# Altium schematic symbol library pporyzala-TI_Lighting.SchLib: 745 symbols (part 41 of 48)
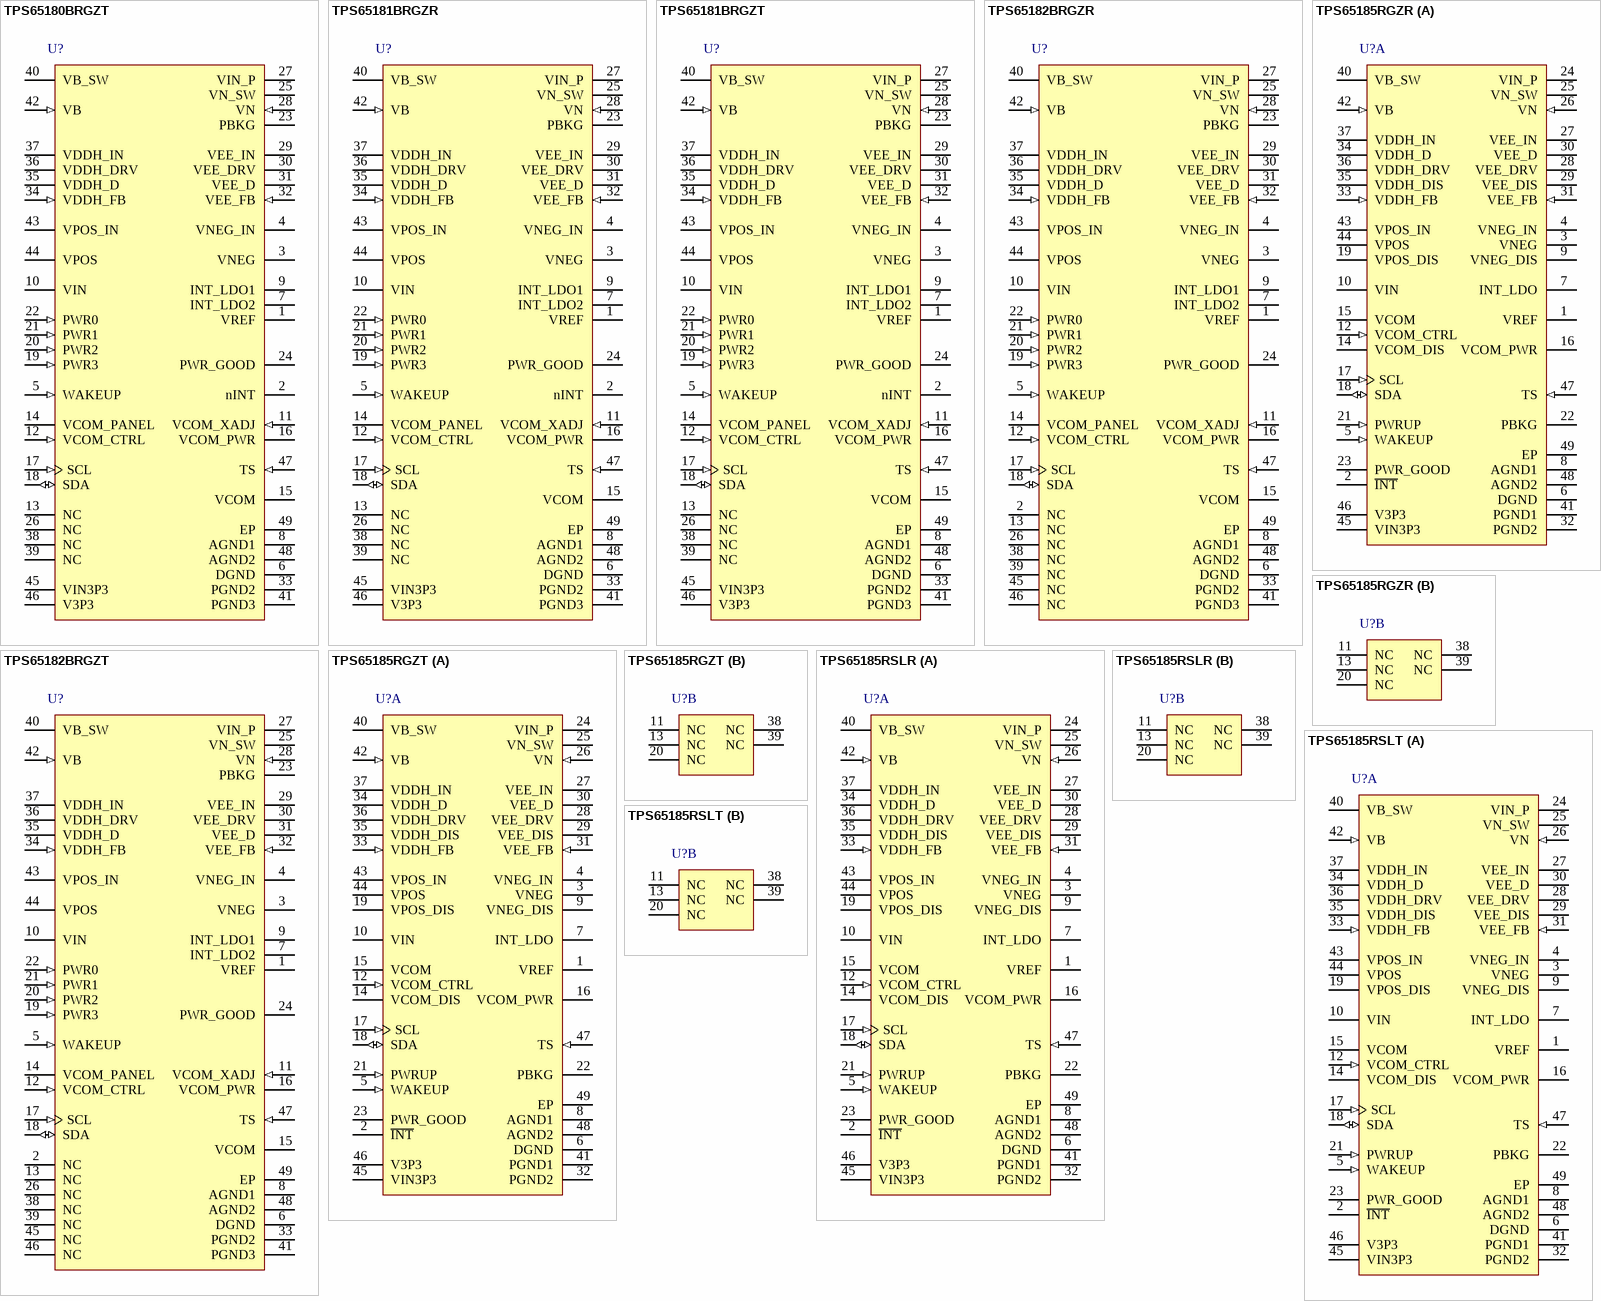
[diagram p71: symbols TPS65180BRGZT to TPS65185RSLT]

## TPS65181BRGZR
designator U?
PMIC for E Ink Vizplex Enabled Electronic Paper Display, 3 to 6 V, -10 to 85 degC, 48-pin QFN (RGZ48), Green (RoHS & no Sb/Br); Manufacturer: Texas Instruments; PartNumber: TPS65181BRGZR; Rating: Catalog; SubFamily: LCD/OLED Display Bias Solutions; Topology: Multi-Channel; Vin(Max)(V): 6; Vin(Min)(V): 3; DatasheetVersion: SLVSA76F; PackageVersion: 4204101/F; PackageReference: RGZ48-4100X4100TP; PackageDescription: 48-Pin Plastic Flat Pack, Body 7 x 7 mm, Pitch 0.5 mm; Supplier 1: Digi-Key; Supplier Part Number 1: 296-28639-2-ND; Supplier 2: Digi-Key; Supplier Part Number 2: 296-28639-1-ND; Supplier 3: Digi-Key; Supplier Part Number 3: 296-28639-6-ND; Supplier 4: Mouser; Supplier Part Number 4: 595-TPS65181BRGZR; Eco-Plan: Green (RoHS & no Sb/Br); Mounting Technology: Surface Mount; Code_JEDEC: MO-220; ComponentLink1Description: Manufacturer URL; ComponentLink1URL: http://www.ti.com/; ComponentLink2Description: Datasheet; ComponentLink2URL: http://www.ti.com/general/docs/lit/getliterature.tsp?genericPartNumber=TPS65181B&fileType=pdf; ComponentLink3Description: Package Specification; ComponentLink3URL: http://www.ti.com/lit/ds/symlink/sn75dp139.pdf
footprint TI-RGZ48-4100X4100TP_V (QFN, 48-Leads, Body 7x7mm, Pitch 0.5mm, Thermal Pad 4.1x4.1mm)
pins: 1 VREF "Filter pin for 2.25-V internal reference to ADC", 2 nINT (oc) "Open drain interrupt pin (active low)", 3 VNEG (power) "Negative supply output pin for panel source drivers", 4 VNEG_IN (power) "Input pin for LDO2 (VNEG)", 5 WAKEUP (in) "Wake up pin (active high). Pull this pin high to wake up from sleep mode.", 6 DGND (power) "Digital ground", 7 INT_LDO2 "Internal supply (digital circuitry) filter pin", 8 AGND1 (power) "Analog ground for general analog circuitry", 9 INT_LDO1 "Internal supply (analog circuitry) filter pin", 10 VIN (power) "Input power supply to general circuitry", 11 VCOM_XADJ (in) "Analog input for conventional VCOM setup method. Tie this pin to ground if VCOM is set through I2 C interface", 12 VCOM_CTRL (in) "VCOM_PANEL gate driver enable (active high)", 13 NC "Not connected", 14 VCOM_PANEL (power) "Panel common-voltage output pin", 15 VCOM "Filter pin for panel common-voltage driver", 16 VCOM_PWR (power) "Internal supply input pin to VCOM buffer. Connect to the output of DCDC2.", 17 SCL (in) "Serial interface (I2C) clock input", 18 SDA (io) "Serial interface (I2C) data input/output", 19 PWR3 (in) "Enable pin for CP1 (VDDH) (active high)", 20 PWR2 (in) "Enable pin for LDO1 (VPOS) (active high)", 21 PWR1 (in) "Enable pin for CP2 (VEE) (active high)", 22 PWR0 (in) "Enable pin for LDO2 (VNEG) and VCOM (active high)", 23 PBKG (power) "Die substrate/thermal pad ,Connect to VN with short. wide trace.Wide copper trace will improve heat dissipation.PowePad must not be connected to ground", 24 PWR_GOOD (oc) "Open drain power good output pin (active low)", 25 VN_SW (power) "Inverting buck-boost converter switch out (DCDC2)", 26 NC "Not connected", 27 VIN_P (power) "Input power supply to inverting buck-boost converter (DCDC2)", 28 VN (in) "Feedback pin for inverting buck-boost converter (DCDC2)", 29 VEE_IN (power) "Input supply pin for CP1 (VEE)", 30 VEE_DRV (power) "Driver output pin for negative charge pump (CP2)", 31 VEE_D (power) "Base voltage output pin for negative charge pump (CP2)", 32 VEE_FB (in) "Feedback pin for negative charge pump (CP2)", 33 PGND2 (power) "Power ground for CP1 (VDDH) and CP2 (VEE) charge pumps", 34 VDDH_FB (in) "Feedback pin for positive charge pump (CP1)", 35 VDDH_D (power) "Base voltage output pin for positive charge pump (CP1)", 36 VDDH_DRV (power) "Driver output pin for positive charge pump (CP1)", 37 VDDH_IN (power) "Input supply pin for positive charge pump (CP1)", 38 NC "Not connected", 39 NC "Not connected", 40 VB_SW (power) "Boost converter switch out (DCDC1)", 41 PGND3 (power) "Power ground for DCDC1", 42 VB (in) "Feedback pin for boost converter (DCDC1)", 43 VPOS_IN (power) "Input pin for LDO1 (VPOS)", 44 VPOS (power) "Positive supply output pin for panel source drivers", 45 VIN3P3 (power) "Input pin to 3.3-V power switch", 46 V3P3 (power) "Output pin of 3.3-V power switch", 47 TS (in) "Thermistor input pin.Connect a 10k NTC thermistor and a 43k linearization resistor between this pin and AGND2", 48 AGND2 (power) "Reference point to external thermistor and linearization resistor", 49 EP "Exposed pad"

## TPS65181BRGZT
designator U?
PMIC for E Ink Vizplex Enabled Electronic Paper Display, 3 to 6 V, -10 to 85 degC, 48-pin QFN (RGZ48), Green (RoHS & no Sb/Br); Manufacturer: Texas Instruments; PartNumber: TPS65181BRGZT; Rating: Catalog; SubFamily: LCD/OLED Display Bias Solutions; Topology: Multi-Channel; Vin(Max)(V): 6; Vin(Min)(V): 3; DatasheetVersion: SLVSA76F; PackageVersion: 4204101/F; PackageReference: RGZ48-4100X4100TP; PackageDescription: 48-Pin Plastic Flat Pack, Body 7 x 7 mm, Pitch 0.5 mm; Supplier 1: Digi-Key; Supplier Part Number 1: TPS65181BRGZT-ND; Supplier 2: Mouser; Supplier Part Number 2: 595-TPS65181BRGZT; Eco-Plan: Green (RoHS & no Sb/Br); Mounting Technology: Surface Mount; Code_JEDEC: MO-220; ComponentLink1Description: Manufacturer URL; ComponentLink1URL: http://www.ti.com/; ComponentLink2Description: Datasheet; ComponentLink2URL: http://www.ti.com/general/docs/lit/getliterature.tsp?genericPartNumber=TPS65181B&fileType=pdf; ComponentLink3Description: Package Specification; ComponentLink3URL: http://www.ti.com/lit/ds/symlink/sn75dp139.pdf
footprint TI-RGZ48-4100X4100TP_V (QFN, 48-Leads, Body 7x7mm, Pitch 0.5mm, Thermal Pad 4.1x4.1mm)
pins: 1 VREF "Filter pin for 2.25-V internal reference to ADC", 2 nINT (oc) "Open drain interrupt pin (active low)", 3 VNEG (power) "Negative supply output pin for panel source drivers", 4 VNEG_IN (power) "Input pin for LDO2 (VNEG)", 5 WAKEUP (in) "Wake up pin (active high). Pull this pin high to wake up from sleep mode.", 6 DGND (power) "Digital ground", 7 INT_LDO2 "Internal supply (digital circuitry) filter pin", 8 AGND1 (power) "Analog ground for general analog circuitry", 9 INT_LDO1 "Internal supply (analog circuitry) filter pin", 10 VIN (power) "Input power supply to general circuitry", 11 VCOM_XADJ (in) "Analog input for conventional VCOM setup method. Tie this pin to ground if VCOM is set through I2 C interface", 12 VCOM_CTRL (in) "VCOM_PANEL gate driver enable (active high)", 13 NC "Not connected", 14 VCOM_PANEL (power) "Panel common-voltage output pin", 15 VCOM "Filter pin for panel common-voltage driver", 16 VCOM_PWR (power) "Internal supply input pin to VCOM buffer. Connect to the output of DCDC2.", 17 SCL (in) "Serial interface (I2C) clock input", 18 SDA (io) "Serial interface (I2C) data input/output", 19 PWR3 (in) "Enable pin for CP1 (VDDH) (active high)", 20 PWR2 (in) "Enable pin for LDO1 (VPOS) (active high)", 21 PWR1 (in) "Enable pin for CP2 (VEE) (active high)", 22 PWR0 (in) "Enable pin for LDO2 (VNEG) and VCOM (active high)", 23 PBKG (power) "Die substrate/thermal pad ,Connect to VN with short. wide trace.Wide copper trace will improve heat dissipation.PowePad must not be connected to ground", 24 PWR_GOOD (oc) "Open drain power good output pin (active low)", 25 VN_SW (power) "Inverting buck-boost converter switch out (DCDC2)", 26 NC "Not connected", 27 VIN_P (power) "Input power supply to inverting buck-boost converter (DCDC2)", 28 VN (in) "Feedback pin for inverting buck-boost converter (DCDC2)", 29 VEE_IN (power) "Input supply pin for CP1 (VEE)", 30 VEE_DRV (power) "Driver output pin for negative charge pump (CP2)", 31 VEE_D (power) "Base voltage output pin for negative charge pump (CP2)", 32 VEE_FB (in) "Feedback pin for negative charge pump (CP2)", 33 PGND2 (power) "Power ground for CP1 (VDDH) and CP2 (VEE) charge pumps", 34 VDDH_FB (in) "Feedback pin for positive charge pump (CP1)", 35 VDDH_D (power) "Base voltage output pin for positive charge pump (CP1)", 36 VDDH_DRV (power) "Driver output pin for positive charge pump (CP1)", 37 VDDH_IN (power) "Input supply pin for positive charge pump (CP1)", 38 NC "Not connected", 39 NC "Not connected", 40 VB_SW (power) "Boost converter switch out (DCDC1)", 41 PGND3 (power) "Power ground for DCDC1", 42 VB (in) "Feedback pin for boost converter (DCDC1)", 43 VPOS_IN (power) "Input pin for LDO1 (VPOS)", 44 VPOS (power) "Positive supply output pin for panel source drivers", 45 VIN3P3 (power) "Input pin to 3.3-V power switch", 46 V3P3 (power) "Output pin of 3.3-V power switch", 47 TS (in) "Thermistor input pin.Connect a 10k NTC thermistor and a 43k linearization resistor between this pin and AGND2", 48 AGND2 (power) "Reference point to external thermistor and linearization resistor", 49 EP "Exposed pad"

## TPS65182BRGZR
designator U?
PMIC for E Ink Vizplex Enabled Electronic Paper Display, 3 to 6 V, -10 to 85 degC, 48-pin QFN (RGZ48), Green (RoHS & no Sb/Br); Manufacturer: Texas Instruments; PartNumber: TPS65182BRGZR; Rating: Catalog; SubFamily: LCD/OLED Display Bias Solutions; Topology: Multi-Channel; Vin(Max)(V): 6; Vin(Min)(V): 3; DatasheetVersion: SLVSAA2C; PackageVersion: 4204101/F; PackageReference: RGZ48-4100X4100TP; PackageDescription: 48-Pin Plastic Flat Pack, Body 7 x 7 mm, Pitch 0.5 mm; Supplier 1: Digi-Key; Supplier Part Number 1: 296-28556-2-ND; Supplier 2: Digi-Key; Supplier Part Number 2: 296-28556-1-ND; Supplier 3: Digi-Key; Supplier Part Number 3: 296-28556-6-ND; Supplier 4: Mouser; Supplier Part Number 4: 595-TPS65182BRGZR; Eco-Plan: Green (RoHS & no Sb/Br); Mounting Technology: Surface Mount; Code_JEDEC: MO-220; ComponentLink1Description: Manufacturer URL; ComponentLink1URL: http://www.ti.com/; ComponentLink2Description: Datasheet; ComponentLink2URL: http://www.ti.com/general/docs/lit/getliterature.tsp?genericPartNumber=TPS65182B&fileType=pdf; ComponentLink3Description: Package Specification; ComponentLink3URL: http://www.ti.com/lit/ds/symlink/sn75dp139.pdf
footprint TI-RGZ48-4100X4100TP_V (QFN, 48-Leads, Body 7x7mm, Pitch 0.5mm, Thermal Pad 4.1x4.1mm)
pins: 1 VREF "Filter pin for 2.25-V internal reference to ADC", 2 NC "Not connected", 3 VNEG (power) "Negative supply output pin for panel source drivers", 4 VNEG_IN (power) "Input pin for LDO2 (VNEG)", 5 WAKEUP (in) "Wake up pin (active high). Pull this pin high to wake up from sleep mode.", 6 DGND (power) "Digital ground", 7 INT_LDO2 "Internal supply (digital circuitry) filter pin", 8 AGND1 (power) "Analog ground for general analog circuitry", 9 INT_LDO1 "Internal supply (analog circuitry) filter pin", 10 VIN (power) "Input power supply to general circuitry", 11 VCOM_XADJ (in) "Analog infvut for conventional VCOM setup method.Tie this pin to ground if VCOM is set through I2C interface.", 12 VCOM_CTRL (in) "VCOM_PANEL gate driver enable (active high)", 13 NC "Not connected", 14 VCOM_PANEL (power) "Panel common-voltage output pin", 15 VCOM "Filter pin for panel common-voltage driver", 16 VCOM_PWR (power) "Internal supply input pin to VCOM buffer. Connect to the output of DCDC2.", 17 SCL (in) "Serial interface (I2C) clock input", 18 SDA (io) "Serial interface (I2C) data input/output", 19 PWR3 (in) "Enable pin for CP1 (VDDH) (active high)", 20 PWR2 (in) "Enable pin for LDO1 (VPOS) (active high)", 21 PWR1 (in) "Enable pin for CP2 (VEE) (active high)", 22 PWR0 (in) "Enable pin for LDO2 (VNEG) and VCOM (active high)", 23 PBKG (power) "Die substrate/themial pad. Connect to VN with short, wide trace, Wide copper trace will improve heat dissipation. PowerPad must not be connected to ground.", 24 PWR_GOOD (oc) "Open drain power good output pin (active low)", 25 VN_SW (power) "Inverting buck-boost converter switch out (DCDC2)", 26 NC "Not connected", 27 VIN_P (power) "Input power supply to inverting buck-boost converter (DCDC2)", 28 VN (in) "Feedback pin for inverting buck-boost converter (DCDC2)", 29 VEE_IN (power) "Input supply pin for CP1 (VEE)", 30 VEE_DRV (power) "Driver output pin for negative charge pump (CP2)", 31 VEE_D (power) "Base voltage output pin for negative charge pump (CP2)", 32 VEE_FB (in) "Feedback pin for negative charge pump (CP2)", 33 PGND2 (power) "Power ground for CP1 (VDDH) and CP2 (VEE) charge pumps", 34 VDDH_FB (in) "Feedback pin for positive charge pump (CP1)", 35 VDDH_D (power) "Base voltage output pin for positive charge pump (CP1)", 36 VDDH_DRV (power) "Driver output pin for positive charge pump (CP1)", 37 VDDH_IN (power) "Input supply pin for positive charge pump (CP1)", 38 NC "Not connected", 39 NC "Not connected", 40 VB_SW (power) "Boost converter switch out (DCDC1)", 41 PGND3 (power) "Power ground for DCDC1", 42 VB (in) "Feedback pin for boost converter (DCDC1)", 43 VPOS_IN (power) "Input pin for LDO1 (VPOS)", 44 VPOS (power) "Positive supply output pin for panel source drivers", 45 NC "Not connected", 46 NC "Not connected", 47 TS (in) "Thermistor input pin. Connect a 10k NTC thennistor and a 43k Iinearization resistor between this pin and AGND2.", 48 AGND2 (power) "Reference point to external thermistor and linearization resistor", 49 EP "Die substrate/themial pad. Connect to VN with short, wide trace, Wide copper trace will improve heat dissipation. PowerPad must not be connected to ground."

## TPS65182BRGZT
designator U?
PMIC for E Ink Vizplex Enabled Electronic Paper Display, 3 to 6 V, -10 to 85 degC, 48-pin QFN (RGZ48), Green (RoHS & no Sb/Br); Manufacturer: Texas Instruments; PartNumber: TPS65182BRGZT; Rating: Catalog; SubFamily: LCD/OLED Display Bias Solutions; Topology: Multi-Channel; Vin(Max)(V): 6; Vin(Min)(V): 3; DatasheetVersion: SLVSAA2C; PackageVersion: 4204101/F; PackageReference: RGZ48-4100X4100TP; PackageDescription: 48-Pin Plastic Flat Pack, Body 7 x 7 mm, Pitch 0.5 mm; Supplier 1: Digi-Key; Supplier Part Number 1: TPS65182BRGZT-ND; Supplier 2: Mouser; Supplier Part Number 2: 595-TPS65182BRGZT; Eco-Plan: Green (RoHS & no Sb/Br); Mounting Technology: Surface Mount; Code_JEDEC: MO-220; ComponentLink1Description: Manufacturer URL; ComponentLink1URL: http://www.ti.com/; ComponentLink2Description: Datasheet; ComponentLink2URL: http://www.ti.com/general/docs/lit/getliterature.tsp?genericPartNumber=TPS65182B&fileType=pdf; ComponentLink3Description: Package Specification; ComponentLink3URL: http://www.ti.com/lit/ds/symlink/sn75dp139.pdf
footprint TI-RGZ48-4100X4100TP_V (QFN, 48-Leads, Body 7x7mm, Pitch 0.5mm, Thermal Pad 4.1x4.1mm)
pins: 1 VREF "Filter pin for 2.25-V internal reference to ADC", 2 NC "Not connected", 3 VNEG (power) "Negative supply output pin for panel source drivers", 4 VNEG_IN (power) "Input pin for LDO2 (VNEG)", 5 WAKEUP (in) "Wake up pin (active high). Pull this pin high to wake up from sleep mode.", 6 DGND (power) "Digital ground", 7 INT_LDO2 "Internal supply (digital circuitry) filter pin", 8 AGND1 (power) "Analog ground for general analog circuitry", 9 INT_LDO1 "Internal supply (analog circuitry) filter pin", 10 VIN (power) "Input power supply to general circuitry", 11 VCOM_XADJ (in) "Analog infvut for conventional VCOM setup method.Tie this pin to ground if VCOM is set through I2C interface.", 12 VCOM_CTRL (in) "VCOM_PANEL gate driver enable (active high)", 13 NC "Not connected", 14 VCOM_PANEL (power) "Panel common-voltage output pin", 15 VCOM "Filter pin for panel common-voltage driver", 16 VCOM_PWR (power) "Internal supply input pin to VCOM buffer. Connect to the output of DCDC2.", 17 SCL (in) "Serial interface (I2C) clock input", 18 SDA (io) "Serial interface (I2C) data input/output", 19 PWR3 (in) "Enable pin for CP1 (VDDH) (active high)", 20 PWR2 (in) "Enable pin for LDO1 (VPOS) (active high)", 21 PWR1 (in) "Enable pin for CP2 (VEE) (active high)", 22 PWR0 (in) "Enable pin for LDO2 (VNEG) and VCOM (active high)", 23 PBKG (power) "Die substrate/themial pad. Connect to VN with short, wide trace, Wide copper trace will improve heat dissipation. PowerPad must not be connected to ground.", 24 PWR_GOOD (oc) "Open drain power good output pin (active low)", 25 VN_SW (power) "Inverting buck-boost converter switch out (DCDC2)", 26 NC "Not connected", 27 VIN_P (power) "Input power supply to inverting buck-boost converter (DCDC2)", 28 VN (in) "Feedback pin for inverting buck-boost converter (DCDC2)", 29 VEE_IN (power) "Input supply pin for CP1 (VEE)", 30 VEE_DRV (power) "Driver output pin for negative charge pump (CP2)", 31 VEE_D (power) "Base voltage output pin for negative charge pump (CP2)", 32 VEE_FB (in) "Feedback pin for negative charge pump (CP2)", 33 PGND2 (power) "Power ground for CP1 (VDDH) and CP2 (VEE) charge pumps", 34 VDDH_FB (in) "Feedback pin for positive charge pump (CP1)", 35 VDDH_D (power) "Base voltage output pin for positive charge pump (CP1)", 36 VDDH_DRV (power) "Driver output pin for positive charge pump (CP1)", 37 VDDH_IN (power) "Input supply pin for positive charge pump (CP1)", 38 NC "Not connected", 39 NC "Not connected", 40 VB_SW (power) "Boost converter switch out (DCDC1)", 41 PGND3 (power) "Power ground for DCDC1", 42 VB (in) "Feedback pin for boost converter (DCDC1)", 43 VPOS_IN (power) "Input pin for LDO1 (VPOS)", 44 VPOS (power) "Positive supply output pin for panel source drivers", 45 NC "Not connected", 46 NC "Not connected", 47 TS (in) "Thermistor input pin. Connect a 10k NTC thennistor and a 43k Iinearization resistor between this pin and AGND2.", 48 AGND2 (power) "Reference point to external thermistor and linearization resistor", 49 EP "Die substrate/themial pad. Connect to VN with short, wide trace, Wide copper trace will improve heat dissipation. PowerPad must not be connected to ground."

## TPS65185RGZR
designator U?
PMIC for E Ink Vizplex Enabled Electronic Paper Display, 3 to 6 V, -40 to 85 degC, 48-pin QFN (RGZ48), Green (RoHS & no Sb/Br); Manufacturer: Texas Instruments; PartNumber: TPS65185RGZR; Rating: Catalog; SubFamily: LCD/OLED Display Bias Solutions; Topology: Multi-Channel; Vin(Max)(V): 6; Vin(Min)(V): 3; DatasheetVersion: SLVSAQ8B; PackageVersion: 4204101/F; PackageReference: RGZ48-4100X4100TP; PackageDescription: 48-Pin Plastic Flat Pack, Body 7 x 7 mm, Pitch 0.5 mm; Supplier 1: Digi-Key; Supplier Part Number 1: 296-28832-2-ND; Supplier 2: Digi-Key; Supplier Part Number 2: 296-28832-1-ND; Supplier 3: Digi-Key; Supplier Part Number 3: 296-28832-6-ND; Supplier 4: Mouser; Supplier Part Number 4: 595-TPS65185RGZR; Eco-Plan: Green (RoHS & no Sb/Br); Mounting Technology: Surface Mount; Code_JEDEC: MO-220; ComponentLink1Description: Manufacturer URL; ComponentLink1URL: http://www.ti.com/; ComponentLink2Description: Datasheet; ComponentLink2URL: http://www.ti.com/general/docs/lit/getliterature.tsp?genericPartNumber=TPS65185&fileType=pdf; ComponentLink3Description: Package Specification; ComponentLink3URL: http://www.ti.com/lit/ds/symlink/sn75dp139.pdf
footprint TI-RGZ48-4100X4100TP_V (QFN, 48-Leads, Body 7x7mm, Pitch 0.5mm, Thermal Pad 4.1x4.1mm)
part A pins: 1 VREF "Filter pin for 2.25-V internal reference to ADC", 2 ~{INT} (oc) "Open drain interrupt pin (active low)", 3 VNEG (power) "Negative supply output pin for panel source drivers", 4 VNEG_IN (power) "Input pin for LDO2 (VNEG)", 5 WAKEUP (in) "Wake up pin (active high). Pull this pin high to wake up from sleep mode. IC accepts I2C commands after WAKEUP pin is pulled high but power rails remain disabled until PWRUP pin is pulled high.", 6 DGND (power) "Digital ground. Connect to ground plane.", 7 INT_LDO "Filter pin for 2.7-V internal supply", 8 AGND1 (power) "Analog ground for general analog circuitry", 9 VNEG_DIS (power) "Discharge pin for VNEG. Connect to VNEG to discharge VNEG to ground whenever the rail is disabled. Leave floating if discharge function is not desired,", 10 VIN (power) "Input power supply to general circuitry", 12 VCOM_CTRL (in) "VCOM enable. Pull this pin high to enable the VCOM amplifier. When pin is pulled low and VN is enabled, VCOM discharge is enabled.", 14 VCOM_DIS (power) "Discharge pin for VCOM. Connect to ground to discharge VCOM to ground whenever VCOM is disabled. Leave floating if discharge function is not desired.", 15 VCOM "Filter pin for panel common-voltage driver", 16 VCOM_PWR (power) "Internal supply input pin to VCOM buffer. Connect to the output of DCDC2.", 17 SCL (in) "Serial interface (I2C) clock input", 18 SDA (io) "Serial interface (I2C) data input/output", 19 VPOS_DIS (power) "Discharge pin for VPOS. Connect a resistor from VPOS_DIS to VPOS to discharge VPOS to ground whenever the rail is disabled. Leave floating if discharge function is not desired.", 21 PWRUP (in) "Power-up pin. Pull this pin high to power-up all output rails.", 22 PBKG (power) "Die substrate. Connect to VN (-16 V) with short. wide trace. Wide copper trace will improve heat dissipation.", 23 PWR_GOOD (oc) "Open drain power good output pin. Pin is pulled low when one or more raiis are disabled or not in regulation. DCDC1, DCDC2. and VCOM have no effect on this pin.", 24 VIN_P (power) "Input power supply to inverting buck-boost converter (DCDC2)", 25 VN_SW (power) "Inverting buck-boost converter switch out (DCDC2)", 26 VN (in) "Feedback pin for inverting buck-boost converter (DCDC2) and supply for VNEG LDO and VEE charge pump", 27 VEE_IN (power) "Input supply pin for negative charge pump (CP2) (VEE)", 28 VEE_DRV (power) "Driver output pin for negative charge pump (CP2)", 29 VEE_DIS (power) "Discharge pin for VEE. Connect a resistor from VEE _DIS to VEE to discharge VEE to ground whenever the rail is disabled. Leave tioating if discharge function is not desired", 30 VEE_D (power) "Base voltage output pin for negative charge pump (CP2)", 31 VEE_FB (in) "Feedback pin for negative charge pump (CP2)", 32 PGND2 (power) "Power ground for CP1 (VDDH) and CP2 (VEE) charge pumps", 33 VDDH_FB (in) "Feedback pin for positive charge pump (CP1)", 34 VDDH_D (power) "Base voltage output pin for positive charge pump (CP1)", 35 VDDH_DIS (power) "Discharge pin for VDDH. Connect to \/DDH to discharge VDDH to ground whenever the rail is disabled. Leave floating if discharge function is not desired.", 36 VDDH_DRV (power) "Driver output pin for positive charge pump (CP1)", 37 VDDH_IN (power) "Input supply pin for positive charge pump (CP1)", 40 VB_SW (power) "Boost converter switch out (DCDC1)", 41 PGND1 (power) "Power ground for DCDC1", 42 VB (in) "Feedback pin for boost converter (DCDC1) and supply for VPOS LDO and \/DDH charge PUmP", 43 VPOS_IN (power) "Input pin for LDO1 (VPOS)", 44 VPOS (power) "Positive supply output pin for panel source drivers", 45 VIN3P3 (power) "Input pin to 3.3-V power switch", 46 V3P3 (power) "Output pin of 3.3-V power switch", 47 TS (in) "Thermistor input pin. Connect a 10k NTC thermistor and a 43k Iinearization resistor between this pin and AGND.", 48 AGND2 (power) "Reference point to external thermistor and linearization resistor", 49 EP "Power Pad, internally connected to PBKG. Connect to VN with short, wide trace. Wide copper trace will improve heat dissipation. PowerPad must not be connected to ground"
part B pins: 11 NC "Not internally connected", 13 NC "Not internally connected", 20 NC "Not internally connected", 38 NC "Not internally connected", 39 NC "Not internally connected"

## TPS65185RGZT
designator U?
PMIC for E Ink Vizplex Enabled Electronic Paper Display, 3 to 6 V, -40 to 85 degC, 48-pin QFN (RGZ48), Green (RoHS & no Sb/Br); Manufacturer: Texas Instruments; PartNumber: TPS65185RGZT; Rating: Catalog; SubFamily: LCD/OLED Display Bias Solutions; Topology: Multi-Channel; Vin(Max)(V): 6; Vin(Min)(V): 3; DatasheetVersion: SLVSAQ8B; PackageVersion: 4204101/F; PackageReference: RGZ48-4100X4100TP; PackageDescription: 48-Pin Plastic Flat Pack, Body 7 x 7 mm, Pitch 0.5 mm; Supplier 1: Digi-Key; Supplier Part Number 1: TPS65185RGZT-ND; Supplier 2: Newark; Supplier Part Number 2: 52T8817; Supplier 3: Mouser; Supplier Part Number 3: 595-TPS65185RGZT; Eco-Plan: Green (RoHS & no Sb/Br); Mounting Technology: Surface Mount; Code_JEDEC: MO-220; ComponentLink1Description: Manufacturer URL; ComponentLink1URL: http://www.ti.com/; ComponentLink2Description: Datasheet; ComponentLink2URL: http://www.ti.com/general/docs/lit/getliterature.tsp?genericPartNumber=TPS65185&fileType=pdf; ComponentLink3Description: Package Specification; ComponentLink3URL: http://www.ti.com/lit/ds/symlink/sn75dp139.pdf
footprint TI-RGZ48-4100X4100TP_V (QFN, 48-Leads, Body 7x7mm, Pitch 0.5mm, Thermal Pad 4.1x4.1mm)
part A pins: 1 VREF "Filter pin for 2.25-V internal reference to ADC", 2 ~{INT} (oc) "Open drain interrupt pin (active low)", 3 VNEG (power) "Negative supply output pin for panel source drivers", 4 VNEG_IN (power) "Input pin for LDO2 (VNEG)", 5 WAKEUP (in) "Wake up pin (active high). Pull this pin high to wake up from sleep mode. IC accepts I2C commands after WAKEUP pin is pulled high but power rails remain disabled until PWRUP pin is pulled high.", 6 DGND (power) "Digital ground. Connect to ground plane.", 7 INT_LDO "Filter pin for 2.7-V internal supply", 8 AGND1 (power) "Analog ground for general analog circuitry", 9 VNEG_DIS (power) "Discharge pin for VNEG. Connect to VNEG to discharge VNEG to ground whenever the rail is disabled. Leave floating if discharge function is not desired,", 10 VIN (power) "Input power supply to general circuitry", 12 VCOM_CTRL (in) "VCOM enable. Pull this pin high to enable the VCOM amplifier. When pin is pulled low and VN is enabled, VCOM discharge is enabled.", 14 VCOM_DIS (power) "Discharge pin for VCOM. Connect to ground to discharge VCOM to ground whenever VCOM is disabled. Leave floating if discharge function is not desired.", 15 VCOM "Filter pin for panel common-voltage driver", 16 VCOM_PWR (power) "Internal supply input pin to VCOM buffer. Connect to the output of DCDC2.", 17 SCL (in) "Serial interface (I2C) clock input", 18 SDA (io) "Serial interface (I2C) data input/output", 19 VPOS_DIS (power) "Discharge pin for VPOS. Connect a resistor from VPOS_DIS to VPOS to discharge VPOS to ground whenever the rail is disabled. Leave floating if discharge function is not desired.", 21 PWRUP (in) "Power-up pin. Pull this pin high to power-up all output rails.", 22 PBKG (power) "Die substrate. Connect to VN (-16 V) with short. wide trace. Wide copper trace will improve heat dissipation.", 23 PWR_GOOD (oc) "Open drain power good output pin. Pin is pulled low when one or more raiis are disabled or not in regulation. DCDC1, DCDC2. and VCOM have no effect on this pin.", 24 VIN_P (power) "Input power supply to inverting buck-boost converter (DCDC2)", 25 VN_SW (power) "Inverting buck-boost converter switch out (DCDC2)", 26 VN (in) "Feedback pin for inverting buck-boost converter (DCDC2) and supply for VNEG LDO and VEE charge pump", 27 VEE_IN (power) "Input supply pin for negative charge pump (CP2) (VEE)", 28 VEE_DRV (power) "Driver output pin for negative charge pump (CP2)", 29 VEE_DIS (power) "Discharge pin for VEE. Connect a resistor from VEE _DIS to VEE to discharge VEE to ground whenever the rail is disabled. Leave tioating if discharge function is not desired", 30 VEE_D (power) "Base voltage output pin for negative charge pump (CP2)", 31 VEE_FB (in) "Feedback pin for negative charge pump (CP2)", 32 PGND2 (power) "Power ground for CP1 (VDDH) and CP2 (VEE) charge pumps", 33 VDDH_FB (in) "Feedback pin for positive charge pump (CP1)", 34 VDDH_D (power) "Base voltage output pin for positive charge pump (CP1)", 35 VDDH_DIS (power) "Discharge pin for VDDH. Connect to \/DDH to discharge VDDH to ground whenever the rail is disabled. Leave floating if discharge function is not desired.", 36 VDDH_DRV (power) "Driver output pin for positive charge pump (CP1)", 37 VDDH_IN (power) "Input supply pin for positive charge pump (CP1)", 40 VB_SW (power) "Boost converter switch out (DCDC1)", 41 PGND1 (power) "Power ground for DCDC1", 42 VB (in) "Feedback pin for boost converter (DCDC1) and supply for VPOS LDO and \/DDH charge PUmP", 43 VPOS_IN (power) "Input pin for LDO1 (VPOS)", 44 VPOS (power) "Positive supply output pin for panel source drivers", 45 VIN3P3 (power) "Input pin to 3.3-V power switch", 46 V3P3 (power) "Output pin of 3.3-V power switch", 47 TS (in) "Thermistor input pin. Connect a 10k NTC thermistor and a 43k Iinearization resistor between this pin and AGND.", 48 AGND2 (power) "Reference point to external thermistor and linearization resistor", 49 EP "Power Pad, internally connected to PBKG. Connect to VN with short, wide trace. Wide copper trace will improve heat dissipation. PowerPad must not be connected to ground"
part B pins: 11 NC "Not internally connected", 13 NC "Not internally connected", 20 NC "Not internally connected", 38 NC "Not internally connected", 39 NC "Not internally connected"

## TPS65185RSLR
designator U?
PMIC for E Ink Vizplex Enabled Electronic Paper Display, 3 to 6 V, -40 to 85 degC, 48-pin QFN (RSL48), Green (RoHS & no Sb/Br); Manufacturer: Texas Instruments; PartNumber: TPS65185RSLR; Rating: Catalog; SubFamily: LCD/OLED Display Bias Solutions; Topology: Multi-Channel; Vin(Max)(V): 6; Vin(Min)(V): 3; DatasheetVersion: SLVSAQ8B; PackageVersion: 4207548/B; PackageReference: RSL48-4400X4400TP; PackageDescription: 48-Lead, Plastic Flat Pack, Body Size 6 x 6 mm, Pitch 0.4 mm; Supplier 1: Digi-Key; Supplier Part Number 1: 296-29565-2-ND; Supplier 2: Digi-Key; Supplier Part Number 2: 296-29565-1-ND; Supplier 3: Digi-Key; Supplier Part Number 3: 296-29565-6-ND; Supplier 4: Mouser; Supplier Part Number 4: 595-TPS65185RSLR; Eco-Plan: Green (RoHS & no Sb/Br); Mounting Technology: Surface Mount; ComponentLink1Description: Manufacturer URL; ComponentLink1URL: http://www.ti.com/; ComponentLink2Description: Datasheet; ComponentLink2URL: http://www.ti.com/general/docs/lit/getliterature.tsp?genericPartNumber=TPS65185&fileType=pdf; ComponentLink3Description: Package Specification; ComponentLink3URL: http://www.ti.com/litv/pdf/mpqf193a
footprint TI-RSL48-4400X4400TP_V (QFN, 48-Leads, Body 6x6mm, Pitch 0.4mm, Thermal Pad 4.4x4.4mm)
part A pins: 1 VREF "Filter pin for 2.25-V internal reference to ADC", 2 ~{INT} (oc) "Open drain interrupt pin (active low)", 3 VNEG (power) "Negative supply output pin for panel source drivers", 4 VNEG_IN (power) "Input pin for LDO2 (VNEG)", 5 WAKEUP (in) "Wake up pin (active high). Pull this pin high to wake up from sleep mode. IC accepts I2C commands after WAKEUP pin is pulled high but power rails remain disabled until PWRUP pin is pulled high.", 6 DGND (power) "Digital ground. Connect to ground plane.", 7 INT_LDO "Filter pin for 2.7-V internal supply", 8 AGND1 (power) "Analog ground for general analog circuitry", 9 VNEG_DIS (power) "Discharge pin for VNEG. Connect to VNEG to discharge VNEG to ground whenever the rail is disabled. Leave floating if discharge function is not desired,", 10 VIN (power) "Input power supply to general circuitry", 12 VCOM_CTRL (in) "VCOM enable. Pull this pin high to enable the VCOM amplifier. When pin is pulled low and VN is enabled, VCOM discharge is enabled.", 14 VCOM_DIS (power) "Discharge pin for VCOM. Connect to ground to discharge VCOM to ground whenever VCOM is disabled. Leave floating if discharge function is not desired.", 15 VCOM "Filter pin for panel common-voltage driver", 16 VCOM_PWR (power) "Internal supply input pin to VCOM buffer. Connect to the output of DCDC2.", 17 SCL (in) "Serial interface (I2C) clock input", 18 SDA (io) "Serial interface (I2C) data input/output", 19 VPOS_DIS (power) "Discharge pin for VPOS. Connect a resistor from VPOS_DIS to VPOS to discharge VPOS to ground whenever the rail is disabled. Leave floating if discharge function is not desired.", 21 PWRUP (in) "Power-up pin. Pull this pin high to power-up all output rails.", 22 PBKG (power) "Die substrate. Connect to VN (-16 V) with short. wide trace. Wide copper trace will improve heat dissipation.", 23 PWR_GOOD (oc) "Open drain power good output pin. Pin is pulled low when one or more raiis are disabled or not in regulation. DCDC1, DCDC2. and VCOM have no effect on this pin.", 24 VIN_P (power) "Input power supply to inverting buck-boost converter (DCDC2)", 25 VN_SW (power) "Inverting buck-boost converter switch out (DCDC2)", 26 VN (in) "Feedback pin for inverting buck-boost converter (DCDC2) and supply for VNEG LDO and VEE charge pump", 27 VEE_IN (power) "Input supply pin for negative charge pump (CP2) (VEE)", 28 VEE_DRV (power) "Driver output pin for negative charge pump (CP2)", 29 VEE_DIS (power) "Discharge pin for VEE. Connect a resistor from VEE _DIS to VEE to discharge VEE to ground whenever the rail is disabled. Leave tioating if discharge function is not desired", 30 VEE_D (power) "Base voltage output pin for negative charge pump (CP2)", 31 VEE_FB (in) "Feedback pin for negative charge pump (CP2)", 32 PGND2 (power) "Power ground for CP1 (VDDH) and CP2 (VEE) charge pumps", 33 VDDH_FB (in) "Feedback pin for positive charge pump (CP1)", 34 VDDH_D (power) "Base voltage output pin for positive charge pump (CP1)", 35 VDDH_DIS (power) "Discharge pin for VDDH. Connect to \/DDH to discharge VDDH to ground whenever the rail is disabled. Leave floating if discharge function is not desired.", 36 VDDH_DRV (power) "Driver output pin for positive charge pump (CP1)", 37 VDDH_IN (power) "Input supply pin for positive charge pump (CP1)", 40 VB_SW (power) "Boost converter switch out (DCDC1)", 41 PGND1 (power) "Power ground for DCDC1", 42 VB (in) "Feedback pin for boost converter (DCDC1) and supply for VPOS LDO and \/DDH charge PUmP", 43 VPOS_IN (power) "Input pin for LDO1 (VPOS)", 44 VPOS (power) "Positive supply output pin for panel source drivers", 45 VIN3P3 (power) "Input pin to 3.3-V power switch", 46 V3P3 (power) "Output pin of 3.3-V power switch", 47 TS (in) "Thermistor input pin. Connect a 10k NTC thermistor and a 43k Iinearization resistor between this pin and AGND.", 48 AGND2 (power) "Reference point to external thermistor and linearization resistor", 49 EP "Power Pad, internally connected to PBKG. Connect to VN with short, wide trace. Wide copper trace will improve heat dissipation. PowerPad must not be connected to ground"
part B pins: 11 NC "Not internally connected", 13 NC "Not internally connected", 20 NC "Not internally connected", 38 NC "Not internally connected", 39 NC "Not internally connected"

## TPS65185RSLT
designator U?
PMIC for E Ink Vizplex Enabled Electronic Paper Display, 3 to 6 V, -40 to 85 degC, 48-pin QFN (RSL48), Green (RoHS & no Sb/Br); Manufacturer: Texas Instruments; PartNumber: TPS65185RSLT; Rating: Catalog; SubFamily: LCD/OLED Display Bias Solutions; Topology: Multi-Channel; Vin(Max)(V): 6; Vin(Min)(V): 3; DatasheetVersion: SLVSAQ8B; PackageVersion: 4207548/B; PackageReference: RSL48-4400X4400TP; PackageDescription: 48-Lead, Plastic Flat Pack, Body Size 6 x 6 mm, Pitch 0.4 mm; Supplier 1: Digi-Key; Supplier Part Number 1: TPS65185RSLT-ND; Supplier 2: Mouser; Supplier Part Number 2: 595-TPS65185RSLT; Eco-Plan: Green (RoHS & no Sb/Br); Mounting Technology: Surface Mount; ComponentLink1Description: Manufacturer URL; ComponentLink1URL: http://www.ti.com/; ComponentLink2Description: Datasheet; ComponentLink2URL: http://www.ti.com/general/docs/lit/getliterature.tsp?genericPartNumber=TPS65185&fileType=pdf; ComponentLink3Description: Package Specification; ComponentLink3URL: http://www.ti.com/litv/pdf/mpqf193a
footprint TI-RSL48-4400X4400TP_V (QFN, 48-Leads, Body 6x6mm, Pitch 0.4mm, Thermal Pad 4.4x4.4mm)
part A pins: 1 VREF "Filter pin for 2.25-V internal reference to ADC", 2 ~{INT} (oc) "Open drain interrupt pin (active low)", 3 VNEG (power) "Negative supply output pin for panel source drivers", 4 VNEG_IN (power) "Input pin for LDO2 (VNEG)", 5 WAKEUP (in) "Wake up pin (active high). Pull this pin high to wake up from sleep mode. IC accepts I2C commands after WAKEUP pin is pulled high but power rails remain disabled until PWRUP pin is pulled high.", 6 DGND (power) "Digital ground. Connect to ground plane.", 7 INT_LDO "Filter pin for 2.7-V internal supply", 8 AGND1 (power) "Analog ground for general analog circuitry", 9 VNEG_DIS (power) "Discharge pin for VNEG. Connect to VNEG to discharge VNEG to ground whenever the rail is disabled. Leave floating if discharge function is not desired,", 10 VIN (power) "Input power supply to general circuitry", 12 VCOM_CTRL (in) "VCOM enable. Pull this pin high to enable the VCOM amplifier. When pin is pulled low and VN is enabled, VCOM discharge is enabled.", 14 VCOM_DIS (power) "Discharge pin for VCOM. Connect to ground to discharge VCOM to ground whenever VCOM is disabled. Leave floating if discharge function is not desired.", 15 VCOM "Filter pin for panel common-voltage driver", 16 VCOM_PWR (power) "Internal supply input pin to VCOM buffer. Connect to the output of DCDC2.", 17 SCL (in) "Serial interface (I2C) clock input", 18 SDA (io) "Serial interface (I2C) data input/output", 19 VPOS_DIS (power) "Discharge pin for VPOS. Connect a resistor from VPOS_DIS to VPOS to discharge VPOS to ground whenever the rail is disabled. Leave floating if discharge function is not desired.", 21 PWRUP (in) "Power-up pin. Pull this pin high to power-up all output rails.", 22 PBKG (power) "Die substrate. Connect to VN (-16 V) with short. wide trace. Wide copper trace will improve heat dissipation.", 23 PWR_GOOD (oc) "Open drain power good output pin. Pin is pulled low when one or more raiis are disabled or not in regulation. DCDC1, DCDC2. and VCOM have no effect on this pin.", 24 VIN_P (power) "Input power supply to inverting buck-boost converter (DCDC2)", 25 VN_SW (power) "Inverting buck-boost converter switch out (DCDC2)", 26 VN (in) "Feedback pin for inverting buck-boost converter (DCDC2) and supply for VNEG LDO and VEE charge pump", 27 VEE_IN (power) "Input supply pin for negative charge pump (CP2) (VEE)", 28 VEE_DRV (power) "Driver output pin for negative charge pump (CP2)", 29 VEE_DIS (power) "Discharge pin for VEE. Connect a resistor from VEE _DIS to VEE to discharge VEE to ground whenever the rail is disabled. Leave tioating if discharge function is not desired", 30 VEE_D (power) "Base voltage output pin for negative charge pump (CP2)", 31 VEE_FB (in) "Feedback pin for negative charge pump (CP2)", 32 PGND2 (power) "Power ground for CP1 (VDDH) and CP2 (VEE) charge pumps", 33 VDDH_FB (in) "Feedback pin for positive charge pump (CP1)", 34 VDDH_D (power) "Base voltage output pin for positive charge pump (CP1)", 35 VDDH_DIS (power) "Discharge pin for VDDH. Connect to \/DDH to discharge VDDH to ground whenever the rail is disabled. Leave floating if discharge function is not desired.", 36 VDDH_DRV (power) "Driver output pin for positive charge pump (CP1)", 37 VDDH_IN (power) "Input supply pin for positive charge pump (CP1)", 40 VB_SW (power) "Boost converter switch out (DCDC1)", 41 PGND1 (power) "Power ground for DCDC1", 42 VB (in) "Feedback pin for boost converter (DCDC1) and supply for VPOS LDO and \/DDH charge PUmP", 43 VPOS_IN (power) "Input pin for LDO1 (VPOS)", 44 VPOS (power) "Positive supply output pin for panel source drivers", 45 VIN3P3 (power) "Input pin to 3.3-V power switch", 46 V3P3 (power) "Output pin of 3.3-V power switch", 47 TS (in) "Thermistor input pin. Connect a 10k NTC thermistor and a 43k Iinearization resistor between this pin and AGND.", 48 AGND2 (power) "Reference point to external thermistor and linearization resistor", 49 EP "Power Pad, internally connected to PBKG. Connect to VN with short, wide trace. Wide copper trace will improve heat dissipation. PowerPad must not be connected to ground"
part B pins: 11 NC "Not internally connected", 13 NC "Not internally connected", 20 NC "Not internally connected", 38 NC "Not internally connected", 39 NC "Not internally connected"

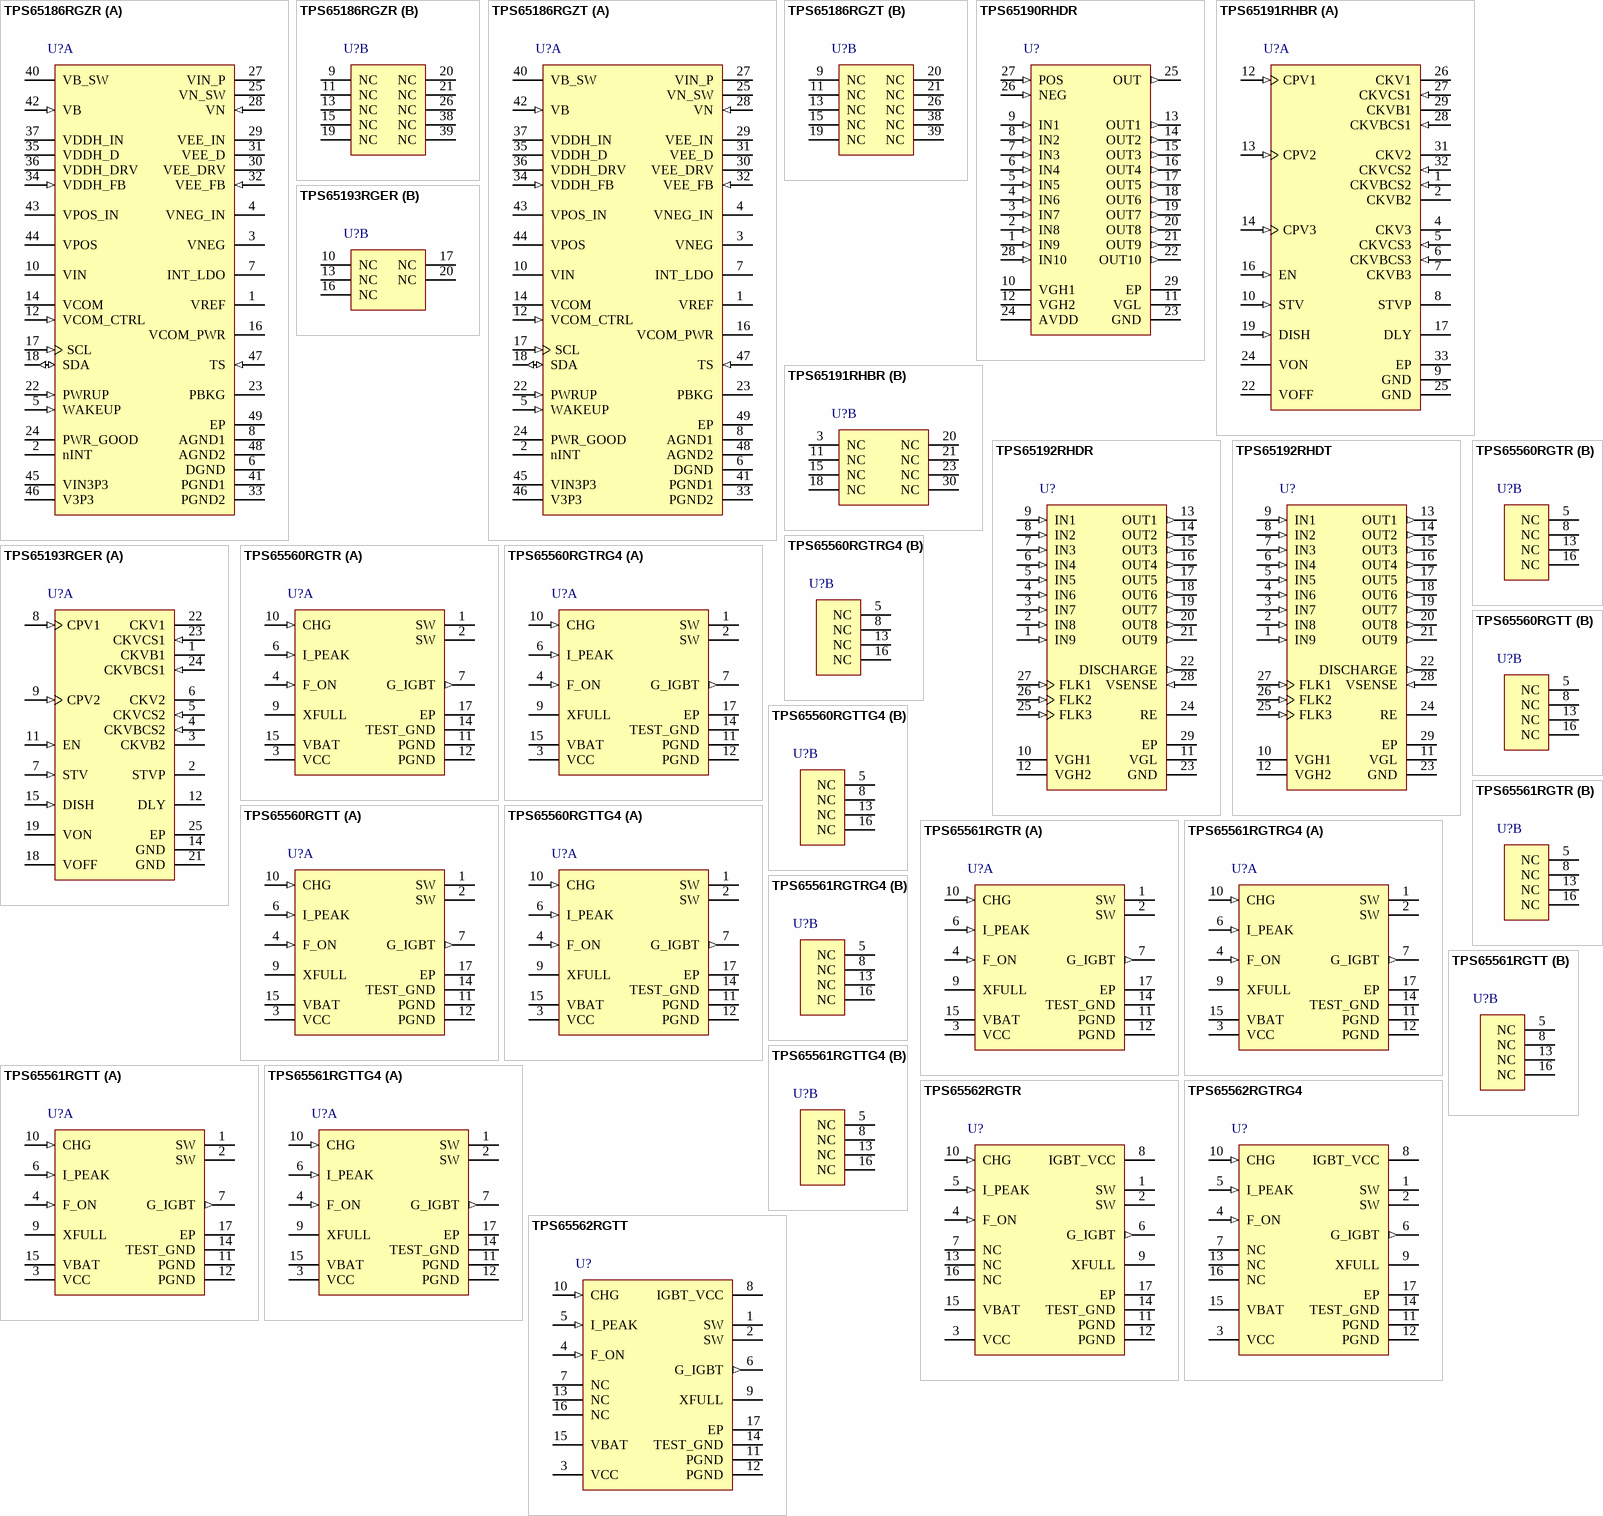
[diagram p27: symbols TPS65186RGZR to TPS65562RGTT]

## TPS65186RGZR
designator U?
PMIC for E Ink Vizplex Enabled Electronic Paper Display, 3 to 6 V, -10 to 85 degC, 48-pin QFN (RGZ48), Green (RoHS & no Sb/Br); Manufacturer: Texas Instruments; PartNumber: TPS65186RGZR; Rating: Catalog; SubFamily: LCD/OLED Display Bias Solutions; Topology: Multi-Channel; Vin(Max)(V): 6; Vin(Min)(V): 3; DatasheetVersion: SLVSB04; PackageVersion: 4204101/F; PackageReference: RGZ48-4100X4100TP; PackageDescription: 48-Pin Plastic Flat Pack, Body 7 x 7 mm, Pitch 0.5 mm; Supplier 1: Digi-Key; Supplier Part Number 1: 296-29566-2-ND; Supplier 2: Digi-Key; Supplier Part Number 2: 296-29566-1-ND; Supplier 3: Digi-Key; Supplier Part Number 3: 296-29566-6-ND; Supplier 4: Mouser; Supplier Part Number 4: 595-TPS65186RGZR; Eco-Plan: Green (RoHS & no Sb/Br); Mounting Technology: Surface Mount; Code_JEDEC: MO-220; ComponentLink1Description: Manufacturer URL; ComponentLink1URL: http://www.ti.com/; ComponentLink2Description: Datasheet; ComponentLink2URL: http://www.ti.com/general/docs/lit/getliterature.tsp?genericPartNumber=TPS65186&fileType=pdf; ComponentLink3Description: Package Specification; ComponentLink3URL: http://www.ti.com/lit/ds/symlink/sn75dp139.pdf
footprint TI-RGZ48-4100X4100TP_V (QFN, 48-Leads, Body 7x7mm, Pitch 0.5mm, Thermal Pad 4.1x4.1mm)
part A pins: 1 VREF "Filter pin for 2.25-V internal reference to ADC", 2 nINT (oc) "Open drain interrupt pin (active low)", 3 VNEG (power) "Negative supply output pin for panel source drivers", 4 VNEG_IN (power) "Input pin for LDO2 (VNEG)", 5 WAKEUP (in) "Wake up pin (active high). Pull this pin high to wake up from sleep mode. IC accepts I2C commands after WAKEUP pin is pulled high but power rails remain disabled until PWRUP pin is pulled high.", 6 DGND (power) "Digital ground. Connect to ground plane.", 7 INT_LDO "Filter pin for 2.7-V internal supply", 8 AGND1 (power) "Analog ground for general analog circuitry", 10 VIN (power) "Input power supply to general circuitry", 12 VCOM_CTRL (in) "VCOM enable. Pull this pin high to enable the VCOM amplifier. When pin is pulled low and VN is enabled, VCOM discharge is enabled.", 14 VCOM "Filter pin for panel common-voltage driver", 16 VCOM_PWR (power) "Internal supply input pin to VCOM buffer. Connect to the output of DCDC2.", 17 SCL (in) "Serial interface (I2C) clock input", 18 SDA (io) "Serial interface (I2C) data input/output", 22 PWRUP (in) "Power-up pin. Pull this pin high to power-up all output rails.", 23 PBKG (power) "Die substrate. Connect to VN (-16 V) with short, wide trace. Wide copper trace will improve heat dissipation.", 24 PWR_GOOD (oc) "Open drain power good output pin. Pin is pulled low when one or more rails are disabled or not in regulation. DCDC1, DCDC2, and VCOM have no effect on this pin.", 25 VN_SW (power) "Inverting buck-boost converter switch out (DCDC2)", 27 VIN_P (power) "Input power supply to inverting buck-boost converter (DCDC2)", 28 VN (in) "Feedback pin for inverting buck-boost converter (DCDC2) and supply for VNEG LDO and VEE charge pump", 29 VEE_IN (power) "Input supply pin for negative charge pump (CP2) (VEE)", 30 VEE_DRV (power) "Driver output pin for negative charge pump (CP2)", 31 VEE_D (power) "Base voltage output pin for negative charge pump (CP2)", 32 VEE_FB (in) "Feedback pin for negative charge pump (CP2)", 33 PGND2 (power) "Power ground for CP1 (VDDH) and CP2 (VEE) charge pumps", 34 VDDH_FB (in) "Feedback pin for positive charge pump (CP1)", 35 VDDH_D (power) "Base voltage output pin for positive charge pump (CP1)", 36 VDDH_DRV (power) "Driver output pin for positive charge pump (CP1)", 37 VDDH_IN (power) "Input supply pin for positive charge pump (CP1)", 40 VB_SW (power) "Boost converter switch out (DCDC1)", 41 PGND1 (power) "Power ground for DCDC1", 42 VB (in) "Feedback pin for boost converter (DCDC1) and supply for VPOS LDO and VDDH charge pump", 43 VPOS_IN (power) "Input pin for LDO1 (VPOS)", 44 VPOS (power) "Positive supply output pin for panel source drivers", 45 VIN3P3 (power) "Input pin to 3.3-V power switch", 46 V3P3 (power) "Output pin of 3.3-V power switch", 47 TS (in) "Thermistor input pin. Connect a 10k NTC thermistor and a 43k linearization resistor between this pin and AGND.", 48 AGND2 (power) "Reference point to external thermistor and linearization resistor", 49 EP "Power Pad, internally connected to PBKG. Connect to VN with short, wide trace. Wide copper trace will improve heat dissipation. PowerPad must not be connected to ground."
part B pins: 9 NC "Not internally connected", 11 NC "Not internally connected", 13 NC "Not internally connected", 15 NC "Not internally connected", 19 NC "Not internally connected", 20 NC "Not internally connected", 21 NC "Not internally connected", 26 NC "Not internally connected", 38 NC "Not internally connected", 39 NC "Not internally connected"

## TPS65186RGZT
designator U?
PMIC for E Ink Vizplex Enabled Electronic Paper Display, 3 to 6 V, -10 to 85 degC, 48-pin QFN (RGZ48), Green (RoHS & no Sb/Br); Manufacturer: Texas Instruments; PartNumber: TPS65186RGZT; Rating: Catalog; SubFamily: LCD/OLED Display Bias Solutions; Topology: Multi-Channel; Vin(Max)(V): 6; Vin(Min)(V): 3; DatasheetVersion: SLVSB04; PackageVersion: 4204101/F; PackageReference: RGZ48-4100X4100TP; PackageDescription: 48-Pin Plastic Flat Pack, Body 7 x 7 mm, Pitch 0.5 mm; Supplier 1: Digi-Key; Supplier Part Number 1: TPS65186RGZT-ND; Supplier 2: Newark; Supplier Part Number 2: 64T4249; Supplier 3: Mouser; Supplier Part Number 3: 595-TPS65186RGZT; Eco-Plan: Green (RoHS & no Sb/Br); Mounting Technology: Surface Mount; Code_JEDEC: MO-220; ComponentLink1Description: Manufacturer URL; ComponentLink1URL: http://www.ti.com/; ComponentLink2Description: Datasheet; ComponentLink2URL: http://www.ti.com/general/docs/lit/getliterature.tsp?genericPartNumber=TPS65186&fileType=pdf; ComponentLink3Description: Package Specification; ComponentLink3URL: http://www.ti.com/lit/ds/symlink/sn75dp139.pdf
footprint TI-RGZ48-4100X4100TP_V (QFN, 48-Leads, Body 7x7mm, Pitch 0.5mm, Thermal Pad 4.1x4.1mm)
part A pins: 1 VREF "Filter pin for 2.25-V internal reference to ADC", 2 nINT (oc) "Open drain interrupt pin (active low)", 3 VNEG (power) "Negative supply output pin for panel source drivers", 4 VNEG_IN (power) "Input pin for LDO2 (VNEG)", 5 WAKEUP (in) "Wake up pin (active high). Pull this pin high to wake up from sleep mode. IC accepts I2C commands after WAKEUP pin is pulled high but power rails remain disabled until PWRUP pin is pulled high.", 6 DGND (power) "Digital ground. Connect to ground plane.", 7 INT_LDO "Filter pin for 2.7-V internal supply", 8 AGND1 (power) "Analog ground for general analog circuitry", 10 VIN (power) "Input power supply to general circuitry", 12 VCOM_CTRL (in) "VCOM enable. Pull this pin high to enable the VCOM amplifier. When pin is pulled low and VN is enabled, VCOM discharge is enabled.", 14 VCOM "Filter pin for panel common-voltage driver", 16 VCOM_PWR (power) "Internal supply input pin to VCOM buffer. Connect to the output of DCDC2.", 17 SCL (in) "Serial interface (I2C) clock input", 18 SDA (io) "Serial interface (I2C) data input/output", 22 PWRUP (in) "Power-up pin. Pull this pin high to power-up all output rails.", 23 PBKG (power) "Die substrate. Connect to VN (-16 V) with short, wide trace. Wide copper trace will improve heat dissipation.", 24 PWR_GOOD (oc) "Open drain power good output pin. Pin is pulled low when one or more rails are disabled or not in regulation. DCDC1, DCDC2, and VCOM have no effect on this pin.", 25 VN_SW (power) "Inverting buck-boost converter switch out (DCDC2)", 27 VIN_P (power) "Input power supply to inverting buck-boost converter (DCDC2)", 28 VN (in) "Feedback pin for inverting buck-boost converter (DCDC2) and supply for VNEG LDO and VEE charge pump", 29 VEE_IN (power) "Input supply pin for negative charge pump (CP2) (VEE)", 30 VEE_DRV (power) "Driver output pin for negative charge pump (CP2)", 31 VEE_D (power) "Base voltage output pin for negative charge pump (CP2)", 32 VEE_FB (in) "Feedback pin for negative charge pump (CP2)", 33 PGND2 (power) "Power ground for CP1 (VDDH) and CP2 (VEE) charge pumps", 34 VDDH_FB (in) "Feedback pin for positive charge pump (CP1)", 35 VDDH_D (power) "Base voltage output pin for positive charge pump (CP1)", 36 VDDH_DRV (power) "Driver output pin for positive charge pump (CP1)", 37 VDDH_IN (power) "Input supply pin for positive charge pump (CP1)", 40 VB_SW (power) "Boost converter switch out (DCDC1)", 41 PGND1 (power) "Power ground for DCDC1", 42 VB (in) "Feedback pin for boost converter (DCDC1) and supply for VPOS LDO and VDDH charge pump", 43 VPOS_IN (power) "Input pin for LDO1 (VPOS)", 44 VPOS (power) "Positive supply output pin for panel source drivers", 45 VIN3P3 (power) "Input pin to 3.3-V power switch", 46 V3P3 (power) "Output pin of 3.3-V power switch", 47 TS (in) "Thermistor input pin. Connect a 10k NTC thermistor and a 43k linearization resistor between this pin and AGND.", 48 AGND2 (power) "Reference point to external thermistor and linearization resistor", 49 EP "Power Pad, internally connected to PBKG. Connect to VN with short, wide trace. Wide copper trace will improve heat dissipation. PowerPad must not be connected to ground."
part B pins: 9 NC "Not internally connected", 11 NC "Not internally connected", 13 NC "Not internally connected", 15 NC "Not internally connected", 19 NC "Not internally connected", 20 NC "Not internally connected", 21 NC "Not internally connected", 26 NC "Not internally connected", 38 NC "Not internally connected", 39 NC "Not internally connected"